# EAGLE library part N7E50-X516XX-20 (library con-3m)
CONNECTOR PCMCIA-CompactFlash
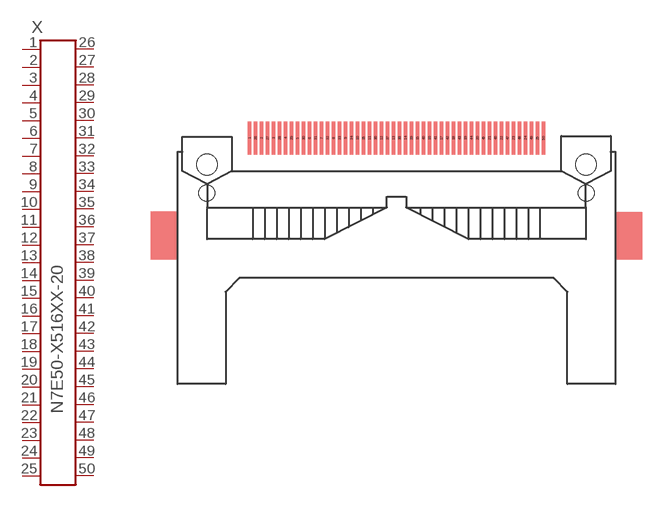
[diagram p11: symbol with the pads of N7E50-X516XX-20; footprint N7E50-X516XX-20]

Designator prefix X

## N7E50-X516XX-20 (OC_FARNELL: unknown; OC_NEWARK: unknown)  [N7E50-X516XX-20]
1  1  pas
2  2  pas
3  3  pas
4  4  pas
5  5  pas
6  6  pas
7  7  pas
8  8  pas
9  9  pas
10  10  pas
11  11  pas
12  12  pas
13  13  pas
14  14  pas
15  15  pas
16  16  pas
17  17  pas
18  18  pas
19  19  pas
20  20  pas
21  21  pas
22  22  pas
23  23  pas
24  24  pas
25  25  pas
26  26  pas
27  27  pas
28  28  pas
29  29  pas
30  30  pas
31  31  pas
32  32  pas
33  33  pas
34  34  pas
35  35  pas
36  36  pas
37  37  pas
38  38  pas
39  39  pas
40  40  pas
41  41  pas
42  42  pas
43  43  pas
44  44  pas
45  45  pas
46  46  pas
47  47  pas
48  48  pas
49  49  pas
50  50  pas

## Footprint N7E50-X516XX-20 (pad centres in mm)
CONNECTOR PCMCIA-CompactFlash Source: http://products3.3m.com
smd 0.4 x 3.5: 1 -15.557,2.81; 2 -14.287,2.81; 3 -13.018,2.81; 4 -11.748,2.81; 5 -10.477,2.81; 6 -9.207,2.81; 7 -7.938,2.81; 8 -6.668,2.81; 9 -5.397,2.81; 10 -4.128,2.81; 11 -2.857,2.81; 12 -1.587,2.81; 13 -0.318,2.81; 14 0.953,2.81; 15 2.223,2.81; 16 3.493,2.81; 17 4.763,2.81; 18 6.032,2.81; 19 7.303,2.81; 20 8.572,2.81; 21 9.842,2.81; 22 11.113,2.81; 23 12.383,2.81; 24 13.652,2.81; 25 14.922,2.81; 26 -14.922,2.81; 27 -13.652,2.81; 28 -12.383,2.81; 29 -11.113,2.81; 30 -9.842,2.81; 31 -8.572,2.81; 32 -7.303,2.81; 33 -6.032,2.81; 34 -4.763,2.81; 35 -3.493,2.81; 36 -2.223,2.81; 37 -0.953,2.81; 38 0.318,2.81; 39 1.587,2.81; 40 2.857,2.81; 41 4.128,2.81; 42 5.397,2.81; 43 6.668,2.81; 44 7.938,2.81; 45 9.207,2.81; 46 10.477,2.81; 47 11.748,2.81; 48 13.018,2.81; 49 14.287,2.81; 50 15.557,2.81
hole 1.7 at -20.08,-3
hole 1.7 at 20.08,-3
hole 2.2 at -20.08,0
hole 2.2 at 20.08,0